# Altium footprint library SM_L_Eth_XFMR_HX1188FNL.PcbLib: 1 footprints
Each footprint in its own frame and in the unit in brackets; x right, y up, seen from the top. Pads: shape width x height; smd on the part's side, far side on the other; paste and mask are expansions set on the pad; w line width, h text height; cw(c..) or ccw(c..) is an arc to the next point about the centre after c.
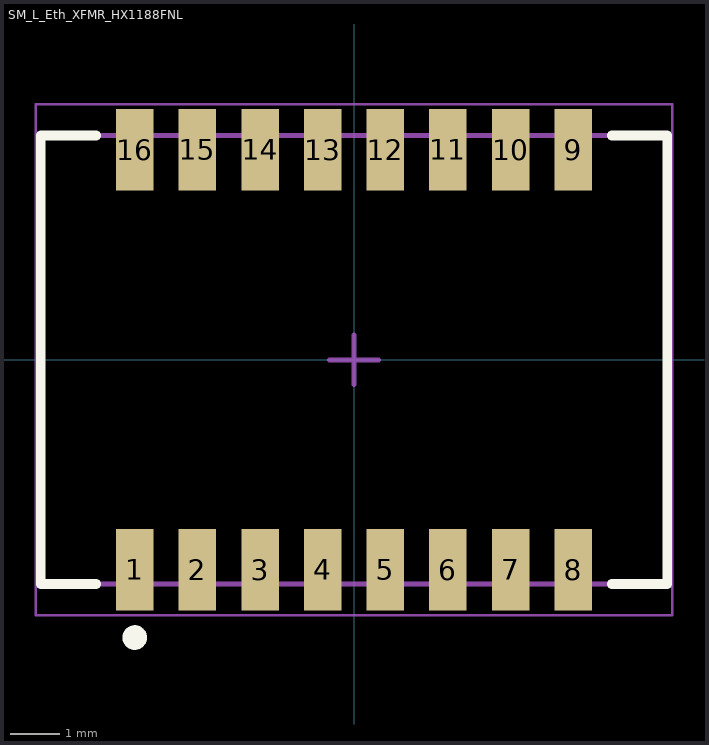
[diagram p0: the footprint, top view; thin cyan lines are the x and y axes]

## SM_L_Eth_XFMR_HX1188FNL [mm] "ETHERNET TRANSFORMER/CHOKE"
height 6
pads (16):
  rect 0.76x1.65 smd: 1(-4.445,-4.255) 2(-3.175,-4.255) 3(-1.905,-4.255) 4(-0.635,-4.255) 5(0.635,-4.255) 6(1.905,-4.255) 7(3.175,-4.255) 8(4.445,-4.255) 9(4.445,4.255) 10(3.175,4.255) 11(1.905,4.255) 12(0.635,4.255) 13(-0.635,4.255) 14(-1.905,4.255) 15(-3.175,4.255) 16(-4.445,4.255)
Top Overlay:
  circle w0.25: c-4.445,-5.63 r0.125
  lines w0.2: -5.225,-4.545 -6.35,-4.545 -6.35,4.545 -5.225,4.545 ; 5.225,-4.545 6.35,-4.545 6.35,4.545 5.225,4.545
Mechanical 13:
  lines w0.1: -6.35,-4.545 -6.35,4.545 6.35,4.545 6.35,-4.545 -6.35,-4.545
Mechanical 15:
  lines w0.05: -6.45,-5.18 6.45,-5.18 6.45,5.18 -6.45,5.18 -6.45,-5.18
  lines w0.1: -0.5,0 0.5,0 ; 0,-0.5 0,0.5
3D body "H1260NL_3D.STEP": height 5.94, standoff 0, extent -6.35,-4.762 6.35,4.763